# Altium integrated library Dallas Logic Delay Line.IntLib: 454 symbols (part 1 of 8)
Pins are listed as number, name and electrical type; pins without a type are passive.

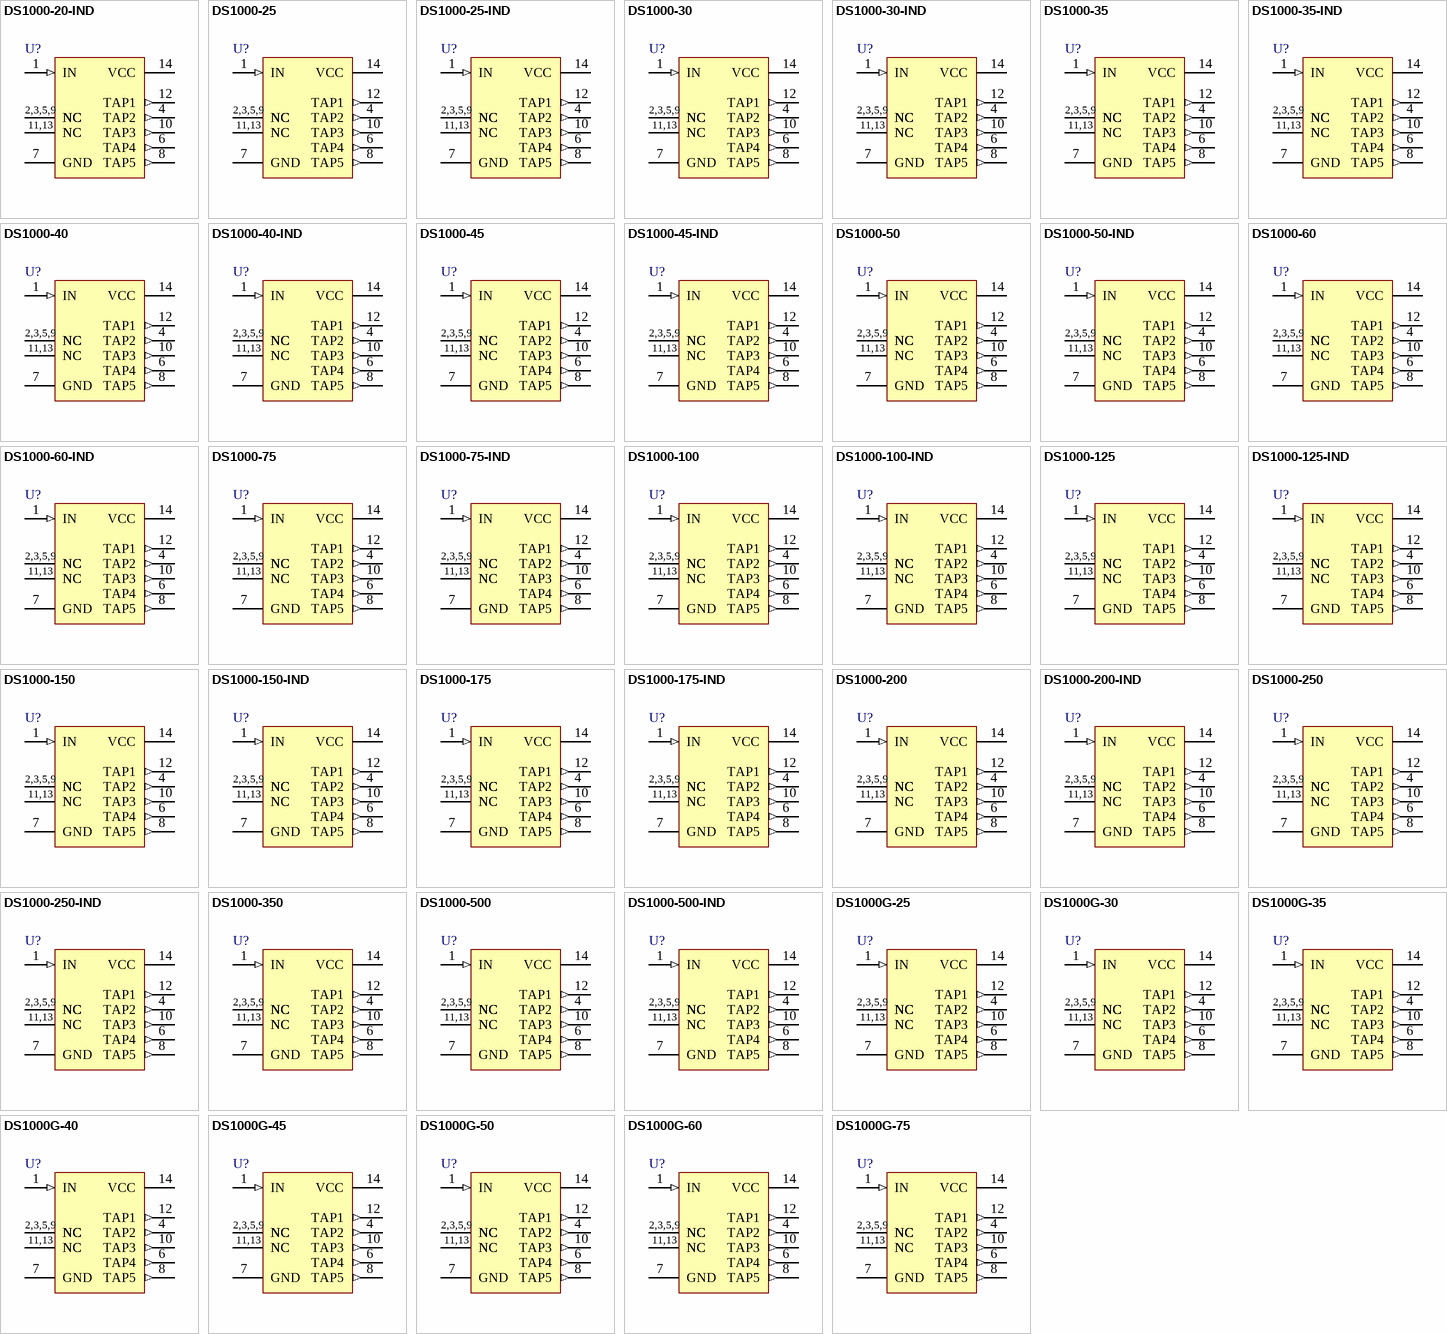
[diagram p0: symbols DS1000-20-IND to DS1000G-75]

## DS1000-20-IND
designator U?
5-Tap Silicon Delay Line; Note: Pin numbers 2, 3, 5, 9, 11 and 13 are Not Connected (NC); ComponentAvailability: Obsolete; Published: 13-Oct-2000; LatestRevisionDate: 17-Jul-2002; LatestRevisionNote: Re-released for DXP Platform.; DatasheetVersion: 17-Feb-1998; PackageVersion: 1999; PackageReference: DIP14; Publisher: Altium Limited; PackageDescription: DIP, 14-Pin, Row Spacing 7.62 mm, Pitch 2.54 mm; ComponentLink1Description: Manufacturer Link; ComponentLink1URL: http://www.maxim-ic.com/
footprint DIP14 (DIP, 14-Leads, Row Spacing 7.62mm, Pitch 2.54mm, Body 19.31x6.35mm)
pins: 1 IN (in), 2 NC, 3 NC, 4 TAP2 (out), 5 NC, 6 TAP4 (out), 7 GND (power), 8 TAP5 (out), 9 NC, 10 TAP3 (out), 11 NC, 12 TAP1 (out), 13 NC, 14 VCC (power)
text: 2,3,5,9; 11,13

## DS1000-25
designator U?
5-Tap Silicon Delay Line; Note: Pin numbers 2, 3, 5, 9, 11 and 13 are Not Connected (NC); ComponentAvailability: Obsolete; Published: 13-Oct-2000; LatestRevisionDate: 17-Jul-2002; LatestRevisionNote: Re-released for DXP Platform.; DatasheetVersion: 17-Feb-1998; PackageVersion: 1999; PackageReference: DIP14; Publisher: Altium Limited; PackageDescription: DIP, 14-Pin, Row Spacing 7.62 mm, Pitch 2.54 mm; ComponentLink1Description: Manufacturer Link; ComponentLink1URL: http://www.maxim-ic.com/
footprint DIP14 (DIP, 14-Leads, Row Spacing 7.62mm, Pitch 2.54mm, Body 19.31x6.35mm)
pins: 1 IN (in), 2 NC, 3 NC, 4 TAP2 (out), 5 NC, 6 TAP4 (out), 7 GND (power), 8 TAP5 (out), 9 NC, 10 TAP3 (out), 11 NC, 12 TAP1 (out), 13 NC, 14 VCC (power)
text: 2,3,5,9; 11,13

## DS1000-25-IND
designator U?
5-Tap Silicon Delay Line; Note: Pin numbers 2, 3, 5, 9, 11 and 13 are Not Connected (NC); ComponentAvailability: Obsolete; Published: 13-Oct-2000; LatestRevisionDate: 17-Jul-2002; LatestRevisionNote: Re-released for DXP Platform.; DatasheetVersion: 17-Feb-1998; PackageVersion: 1999; PackageReference: DIP14; Publisher: Altium Limited; PackageDescription: DIP, 14-Pin, Row Spacing 7.62 mm, Pitch 2.54 mm; ComponentLink1Description: Manufacturer Link; ComponentLink1URL: http://www.maxim-ic.com/
footprint DIP14 (DIP, 14-Leads, Row Spacing 7.62mm, Pitch 2.54mm, Body 19.31x6.35mm)
pins: 1 IN (in), 2 NC, 3 NC, 4 TAP2 (out), 5 NC, 6 TAP4 (out), 7 GND (power), 8 TAP5 (out), 9 NC, 10 TAP3 (out), 11 NC, 12 TAP1 (out), 13 NC, 14 VCC (power)
text: 2,3,5,9; 11,13

## DS1000-30
designator U?
5-Tap Silicon Delay Line; Note: Pin numbers 2, 3, 5, 9, 11 and 13 are Not Connected (NC); ComponentAvailability: Obsolete; Published: 13-Oct-2000; LatestRevisionDate: 17-Jul-2002; LatestRevisionNote: Re-released for DXP Platform.; DatasheetVersion: 17-Feb-1998; PackageVersion: 1999; PackageReference: DIP14; Publisher: Altium Limited; PackageDescription: DIP, 14-Pin, Row Spacing 7.62 mm, Pitch 2.54 mm; ComponentLink1Description: Manufacturer Link; ComponentLink1URL: http://www.maxim-ic.com/
footprint DIP14 (DIP, 14-Leads, Row Spacing 7.62mm, Pitch 2.54mm, Body 19.31x6.35mm)
pins: 1 IN (in), 2 NC, 3 NC, 4 TAP2 (out), 5 NC, 6 TAP4 (out), 7 GND (power), 8 TAP5 (out), 9 NC, 10 TAP3 (out), 11 NC, 12 TAP1 (out), 13 NC, 14 VCC (power)
text: 2,3,5,9; 11,13

## DS1000-30-IND
designator U?
5-Tap Silicon Delay Line; Note: Pin numbers 2, 3, 5, 9, 11 and 13 are Not Connected (NC); ComponentAvailability: Obsolete; Published: 13-Oct-2000; LatestRevisionDate: 17-Jul-2002; LatestRevisionNote: Re-released for DXP Platform.; DatasheetVersion: 17-Feb-1998; PackageVersion: 1999; PackageReference: DIP14; Publisher: Altium Limited; PackageDescription: DIP, 14-Pin, Row Spacing 7.62 mm, Pitch 2.54 mm; ComponentLink1Description: Manufacturer Link; ComponentLink1URL: http://www.maxim-ic.com/
footprint DIP14 (DIP, 14-Leads, Row Spacing 7.62mm, Pitch 2.54mm, Body 19.31x6.35mm)
pins: 1 IN (in), 2 NC, 3 NC, 4 TAP2 (out), 5 NC, 6 TAP4 (out), 7 GND (power), 8 TAP5 (out), 9 NC, 10 TAP3 (out), 11 NC, 12 TAP1 (out), 13 NC, 14 VCC (power)
text: 2,3,5,9; 11,13

## DS1000-35
designator U?
5-Tap Silicon Delay Line; Note: Pin numbers 2, 3, 5, 9, 11 and 13 are Not Connected (NC); ComponentAvailability: Obsolete; Published: 13-Oct-2000; LatestRevisionDate: 17-Jul-2002; LatestRevisionNote: Re-released for DXP Platform.; DatasheetVersion: 17-Feb-1998; PackageVersion: 1999; PackageReference: DIP14; Publisher: Altium Limited; PackageDescription: DIP, 14-Pin, Row Spacing 7.62 mm, Pitch 2.54 mm; ComponentLink1Description: Manufacturer Link; ComponentLink1URL: http://www.maxim-ic.com/
footprint DIP14 (DIP, 14-Leads, Row Spacing 7.62mm, Pitch 2.54mm, Body 19.31x6.35mm)
pins: 1 IN (in), 2 NC, 3 NC, 4 TAP2 (out), 5 NC, 6 TAP4 (out), 7 GND (power), 8 TAP5 (out), 9 NC, 10 TAP3 (out), 11 NC, 12 TAP1 (out), 13 NC, 14 VCC (power)
text: 2,3,5,9; 11,13

## DS1000-35-IND
designator U?
5-Tap Silicon Delay Line; Note: Pin numbers 2, 3, 5, 9, 11 and 13 are Not Connected (NC); ComponentAvailability: Obsolete; Published: 13-Oct-2000; LatestRevisionDate: 17-Jul-2002; LatestRevisionNote: Re-released for DXP Platform.; DatasheetVersion: 17-Feb-1998; PackageVersion: 1999; PackageReference: DIP14; Publisher: Altium Limited; PackageDescription: DIP, 14-Pin, Row Spacing 7.62 mm, Pitch 2.54 mm; ComponentLink1Description: Manufacturer Link; ComponentLink1URL: http://www.maxim-ic.com/
footprint DIP14 (DIP, 14-Leads, Row Spacing 7.62mm, Pitch 2.54mm, Body 19.31x6.35mm)
pins: 1 IN (in), 2 NC, 3 NC, 4 TAP2 (out), 5 NC, 6 TAP4 (out), 7 GND (power), 8 TAP5 (out), 9 NC, 10 TAP3 (out), 11 NC, 12 TAP1 (out), 13 NC, 14 VCC (power)
text: 2,3,5,9; 11,13

## DS1000-40
designator U?
5-Tap Silicon Delay Line; Note: Pin numbers 2, 3, 5, 9, 11 and 13 are Not Connected (NC); ComponentAvailability: Obsolete; Published: 13-Oct-2000; LatestRevisionDate: 17-Jul-2002; LatestRevisionNote: Re-released for DXP Platform.; DatasheetVersion: 17-Feb-1998; PackageVersion: 1999; PackageReference: DIP14; Publisher: Altium Limited; PackageDescription: DIP, 14-Pin, Row Spacing 7.62 mm, Pitch 2.54 mm; ComponentLink1Description: Manufacturer Link; ComponentLink1URL: http://www.maxim-ic.com/
footprint DIP14 (DIP, 14-Leads, Row Spacing 7.62mm, Pitch 2.54mm, Body 19.31x6.35mm)
pins: 1 IN (in), 2 NC, 3 NC, 4 TAP2 (out), 5 NC, 6 TAP4 (out), 7 GND (power), 8 TAP5 (out), 9 NC, 10 TAP3 (out), 11 NC, 12 TAP1 (out), 13 NC, 14 VCC (power)
text: 2,3,5,9; 11,13

## DS1000-40-IND
designator U?
5-Tap Silicon Delay Line; Note: Pin numbers 2, 3, 5, 9, 11 and 13 are Not Connected (NC); ComponentAvailability: Obsolete; Published: 13-Oct-2000; LatestRevisionDate: 17-Jul-2002; LatestRevisionNote: Re-released for DXP Platform.; DatasheetVersion: 17-Feb-1998; PackageVersion: 1999; PackageReference: DIP14; Publisher: Altium Limited; PackageDescription: DIP, 14-Pin, Row Spacing 7.62 mm, Pitch 2.54 mm; ComponentLink1Description: Manufacturer Link; ComponentLink1URL: http://www.maxim-ic.com/
footprint DIP14 (DIP, 14-Leads, Row Spacing 7.62mm, Pitch 2.54mm, Body 19.31x6.35mm)
pins: 1 IN (in), 2 NC, 3 NC, 4 TAP2 (out), 5 NC, 6 TAP4 (out), 7 GND (power), 8 TAP5 (out), 9 NC, 10 TAP3 (out), 11 NC, 12 TAP1 (out), 13 NC, 14 VCC (power)
text: 2,3,5,9; 11,13

## DS1000-45
designator U?
5-Tap Silicon Delay Line; Note: Pin numbers 2, 3, 5, 9, 11 and 13 are Not Connected (NC); ComponentAvailability: Obsolete; Published: 13-Oct-2000; LatestRevisionDate: 17-Jul-2002; LatestRevisionNote: Re-released for DXP Platform.; DatasheetVersion: 17-Feb-1998; PackageVersion: 1999; PackageReference: DIP14; Publisher: Altium Limited; PackageDescription: DIP, 14-Pin, Row Spacing 7.62 mm, Pitch 2.54 mm; ComponentLink1Description: Manufacturer Link; ComponentLink1URL: http://www.maxim-ic.com/
footprint DIP14 (DIP, 14-Leads, Row Spacing 7.62mm, Pitch 2.54mm, Body 19.31x6.35mm)
pins: 1 IN (in), 2 NC, 3 NC, 4 TAP2 (out), 5 NC, 6 TAP4 (out), 7 GND (power), 8 TAP5 (out), 9 NC, 10 TAP3 (out), 11 NC, 12 TAP1 (out), 13 NC, 14 VCC (power)
text: 2,3,5,9; 11,13

## DS1000-45-IND
designator U?
5-Tap Silicon Delay Line; Note: Pin numbers 2, 3, 5, 9, 11 and 13 are Not Connected (NC); ComponentAvailability: Obsolete; Published: 13-Oct-2000; LatestRevisionDate: 17-Jul-2002; LatestRevisionNote: Re-released for DXP Platform.; DatasheetVersion: 17-Feb-1998; PackageVersion: 1999; PackageReference: DIP14; Publisher: Altium Limited; PackageDescription: DIP, 14-Pin, Row Spacing 7.62 mm, Pitch 2.54 mm; ComponentLink1Description: Manufacturer Link; ComponentLink1URL: http://www.maxim-ic.com/
footprint DIP14 (DIP, 14-Leads, Row Spacing 7.62mm, Pitch 2.54mm, Body 19.31x6.35mm)
pins: 1 IN (in), 2 NC, 3 NC, 4 TAP2 (out), 5 NC, 6 TAP4 (out), 7 GND (power), 8 TAP5 (out), 9 NC, 10 TAP3 (out), 11 NC, 12 TAP1 (out), 13 NC, 14 VCC (power)
text: 2,3,5,9; 11,13

## DS1000-50
designator U?
5-Tap Silicon Delay Line; Note: Pin numbers 2, 3, 5, 9, 11 and 13 are Not Connected (NC); ComponentAvailability: Obsolete; Published: 13-Oct-2000; LatestRevisionDate: 17-Jul-2002; LatestRevisionNote: Re-released for DXP Platform.; DatasheetVersion: 17-Feb-1998; PackageVersion: 1999; PackageReference: DIP14; Publisher: Altium Limited; PackageDescription: DIP, 14-Pin, Row Spacing 7.62 mm, Pitch 2.54 mm; ComponentLink1Description: Manufacturer Link; ComponentLink1URL: http://www.maxim-ic.com/
footprint DIP14 (DIP, 14-Leads, Row Spacing 7.62mm, Pitch 2.54mm, Body 19.31x6.35mm)
pins: 1 IN (in), 2 NC, 3 NC, 4 TAP2 (out), 5 NC, 6 TAP4 (out), 7 GND (power), 8 TAP5 (out), 9 NC, 10 TAP3 (out), 11 NC, 12 TAP1 (out), 13 NC, 14 VCC (power)
text: 2,3,5,9; 11,13

## DS1000-50-IND
designator U?
5-Tap Silicon Delay Line; Note: Pin numbers 2, 3, 5, 9, 11 and 13 are Not Connected (NC); ComponentAvailability: Obsolete; Published: 13-Oct-2000; LatestRevisionDate: 17-Jul-2002; LatestRevisionNote: Re-released for DXP Platform.; DatasheetVersion: 17-Feb-1998; PackageVersion: 1999; PackageReference: DIP14; Publisher: Altium Limited; PackageDescription: DIP, 14-Pin, Row Spacing 7.62 mm, Pitch 2.54 mm; ComponentLink1Description: Manufacturer Link; ComponentLink1URL: http://www.maxim-ic.com/
footprint DIP14 (DIP, 14-Leads, Row Spacing 7.62mm, Pitch 2.54mm, Body 19.31x6.35mm)
pins: 1 IN (in), 2 NC, 3 NC, 4 TAP2 (out), 5 NC, 6 TAP4 (out), 7 GND (power), 8 TAP5 (out), 9 NC, 10 TAP3 (out), 11 NC, 12 TAP1 (out), 13 NC, 14 VCC (power)
text: 2,3,5,9; 11,13

## DS1000-60
designator U?
5-Tap Silicon Delay Line; Note: Pin numbers 2, 3, 5, 9, 11 and 13 are Not Connected (NC); ComponentAvailability: Obsolete; Published: 13-Oct-2000; LatestRevisionDate: 17-Jul-2002; LatestRevisionNote: Re-released for DXP Platform.; DatasheetVersion: 17-Feb-1998; PackageVersion: 1999; PackageReference: DIP14; Publisher: Altium Limited; PackageDescription: DIP, 14-Pin, Row Spacing 7.62 mm, Pitch 2.54 mm; ComponentLink1Description: Manufacturer Link; ComponentLink1URL: http://www.maxim-ic.com/
footprint DIP14 (DIP, 14-Leads, Row Spacing 7.62mm, Pitch 2.54mm, Body 19.31x6.35mm)
pins: 1 IN (in), 2 NC, 3 NC, 4 TAP2 (out), 5 NC, 6 TAP4 (out), 7 GND (power), 8 TAP5 (out), 9 NC, 10 TAP3 (out), 11 NC, 12 TAP1 (out), 13 NC, 14 VCC (power)
text: 2,3,5,9; 11,13

## DS1000-60-IND
designator U?
5-Tap Silicon Delay Line; Note: Pin numbers 2, 3, 5, 9, 11 and 13 are Not Connected (NC); ComponentAvailability: Obsolete; Published: 13-Oct-2000; LatestRevisionDate: 17-Jul-2002; LatestRevisionNote: Re-released for DXP Platform.; DatasheetVersion: 17-Feb-1998; PackageVersion: 1999; PackageReference: DIP14; Publisher: Altium Limited; PackageDescription: DIP, 14-Pin, Row Spacing 7.62 mm, Pitch 2.54 mm; ComponentLink1Description: Manufacturer Link; ComponentLink1URL: http://www.maxim-ic.com/
footprint DIP14 (DIP, 14-Leads, Row Spacing 7.62mm, Pitch 2.54mm, Body 19.31x6.35mm)
pins: 1 IN (in), 2 NC, 3 NC, 4 TAP2 (out), 5 NC, 6 TAP4 (out), 7 GND (power), 8 TAP5 (out), 9 NC, 10 TAP3 (out), 11 NC, 12 TAP1 (out), 13 NC, 14 VCC (power)
text: 2,3,5,9; 11,13

## DS1000-75
designator U?
5-Tap Silicon Delay Line; Note: Pin numbers 2, 3, 5, 9, 11 and 13 are Not Connected (NC); ComponentAvailability: Obsolete; Published: 13-Oct-2000; LatestRevisionDate: 17-Jul-2002; LatestRevisionNote: Re-released for DXP Platform.; DatasheetVersion: 17-Feb-1998; PackageVersion: 1999; PackageReference: DIP14; Publisher: Altium Limited; PackageDescription: DIP, 14-Pin, Row Spacing 7.62 mm, Pitch 2.54 mm; ComponentLink1Description: Manufacturer Link; ComponentLink1URL: http://www.maxim-ic.com/
footprint DIP14 (DIP, 14-Leads, Row Spacing 7.62mm, Pitch 2.54mm, Body 19.31x6.35mm)
pins: 1 IN (in), 2 NC, 3 NC, 4 TAP2 (out), 5 NC, 6 TAP4 (out), 7 GND (power), 8 TAP5 (out), 9 NC, 10 TAP3 (out), 11 NC, 12 TAP1 (out), 13 NC, 14 VCC (power)
text: 2,3,5,9; 11,13

## DS1000-75-IND
designator U?
5-Tap Silicon Delay Line; Note: Pin numbers 2, 3, 5, 9, 11 and 13 are Not Connected (NC); ComponentAvailability: Obsolete; Published: 13-Oct-2000; LatestRevisionDate: 17-Jul-2002; LatestRevisionNote: Re-released for DXP Platform.; DatasheetVersion: 17-Feb-1998; PackageVersion: 1999; PackageReference: DIP14; Publisher: Altium Limited; PackageDescription: DIP, 14-Pin, Row Spacing 7.62 mm, Pitch 2.54 mm; ComponentLink1Description: Manufacturer Link; ComponentLink1URL: http://www.maxim-ic.com/
footprint DIP14 (DIP, 14-Leads, Row Spacing 7.62mm, Pitch 2.54mm, Body 19.31x6.35mm)
pins: 1 IN (in), 2 NC, 3 NC, 4 TAP2 (out), 5 NC, 6 TAP4 (out), 7 GND (power), 8 TAP5 (out), 9 NC, 10 TAP3 (out), 11 NC, 12 TAP1 (out), 13 NC, 14 VCC (power)
text: 2,3,5,9; 11,13

## DS1000-100
designator U?
5-Tap Silicon Delay Line; Note: Pin numbers 2, 3, 5, 9, 11 and 13 are Not Connected (NC); ComponentAvailability: Obsolete; Published: 13-Oct-2000; LatestRevisionDate: 17-Jul-2002; LatestRevisionNote: Re-released for DXP Platform.; DatasheetVersion: 17-Feb-1998; PackageVersion: 1999; PackageReference: DIP14; Publisher: Altium Limited; PackageDescription: DIP, 14-Pin, Row Spacing 7.62 mm, Pitch 2.54 mm; ComponentLink1Description: Manufacturer Link; ComponentLink1URL: http://www.maxim-ic.com/
footprint DIP14 (DIP, 14-Leads, Row Spacing 7.62mm, Pitch 2.54mm, Body 19.31x6.35mm)
pins: 1 IN (in), 2 NC, 3 NC, 4 TAP2 (out), 5 NC, 6 TAP4 (out), 7 GND (power), 8 TAP5 (out), 9 NC, 10 TAP3 (out), 11 NC, 12 TAP1 (out), 13 NC, 14 VCC (power)
text: 2,3,5,9; 11,13

## DS1000-100-IND
designator U?
5-Tap Silicon Delay Line; Note: Pin numbers 2, 3, 5, 9, 11 and 13 are Not Connected (NC); ComponentAvailability: Obsolete; Published: 13-Oct-2000; LatestRevisionDate: 17-Jul-2002; LatestRevisionNote: Re-released for DXP Platform.; DatasheetVersion: 17-Feb-1998; PackageVersion: 1999; PackageReference: DIP14; Publisher: Altium Limited; PackageDescription: DIP, 14-Pin, Row Spacing 7.62 mm, Pitch 2.54 mm; ComponentLink1Description: Manufacturer Link; ComponentLink1URL: http://www.maxim-ic.com/
footprint DIP14 (DIP, 14-Leads, Row Spacing 7.62mm, Pitch 2.54mm, Body 19.31x6.35mm)
pins: 1 IN (in), 2 NC, 3 NC, 4 TAP2 (out), 5 NC, 6 TAP4 (out), 7 GND (power), 8 TAP5 (out), 9 NC, 10 TAP3 (out), 11 NC, 12 TAP1 (out), 13 NC, 14 VCC (power)
text: 2,3,5,9; 11,13

## DS1000-125
designator U?
5-Tap Silicon Delay Line; Note: Pin numbers 2, 3, 5, 9, 11 and 13 are Not Connected (NC); ComponentAvailability: Obsolete; Published: 13-Oct-2000; LatestRevisionDate: 17-Jul-2002; LatestRevisionNote: Re-released for DXP Platform.; DatasheetVersion: 17-Feb-1998; PackageVersion: 1999; PackageReference: DIP14; Publisher: Altium Limited; PackageDescription: DIP, 14-Pin, Row Spacing 7.62 mm, Pitch 2.54 mm; ComponentLink1Description: Manufacturer Link; ComponentLink1URL: http://www.maxim-ic.com/
footprint DIP14 (DIP, 14-Leads, Row Spacing 7.62mm, Pitch 2.54mm, Body 19.31x6.35mm)
pins: 1 IN (in), 2 NC, 3 NC, 4 TAP2 (out), 5 NC, 6 TAP4 (out), 7 GND (power), 8 TAP5 (out), 9 NC, 10 TAP3 (out), 11 NC, 12 TAP1 (out), 13 NC, 14 VCC (power)
text: 2,3,5,9; 11,13

## DS1000-125-IND
designator U?
5-Tap Silicon Delay Line; Note: Pin numbers 2, 3, 5, 9, 11 and 13 are Not Connected (NC); ComponentAvailability: Obsolete; Published: 13-Oct-2000; LatestRevisionDate: 17-Jul-2002; LatestRevisionNote: Re-released for DXP Platform.; DatasheetVersion: 17-Feb-1998; PackageVersion: 1999; PackageReference: DIP14; Publisher: Altium Limited; PackageDescription: DIP, 14-Pin, Row Spacing 7.62 mm, Pitch 2.54 mm; ComponentLink1Description: Manufacturer Link; ComponentLink1URL: http://www.maxim-ic.com/
footprint DIP14 (DIP, 14-Leads, Row Spacing 7.62mm, Pitch 2.54mm, Body 19.31x6.35mm)
pins: 1 IN (in), 2 NC, 3 NC, 4 TAP2 (out), 5 NC, 6 TAP4 (out), 7 GND (power), 8 TAP5 (out), 9 NC, 10 TAP3 (out), 11 NC, 12 TAP1 (out), 13 NC, 14 VCC (power)
text: 2,3,5,9; 11,13

## DS1000-150
designator U?
5-Tap Silicon Delay Line; Note: Pin numbers 2, 3, 5, 9, 11 and 13 are Not Connected (NC); ComponentAvailability: Obsolete; Published: 13-Oct-2000; LatestRevisionDate: 17-Jul-2002; LatestRevisionNote: Re-released for DXP Platform.; DatasheetVersion: 17-Feb-1998; PackageVersion: 1999; PackageReference: DIP14; Publisher: Altium Limited; PackageDescription: DIP, 14-Pin, Row Spacing 7.62 mm, Pitch 2.54 mm; ComponentLink1Description: Manufacturer Link; ComponentLink1URL: http://www.maxim-ic.com/
footprint DIP14 (DIP, 14-Leads, Row Spacing 7.62mm, Pitch 2.54mm, Body 19.31x6.35mm)
pins: 1 IN (in), 2 NC, 3 NC, 4 TAP2 (out), 5 NC, 6 TAP4 (out), 7 GND (power), 8 TAP5 (out), 9 NC, 10 TAP3 (out), 11 NC, 12 TAP1 (out), 13 NC, 14 VCC (power)
text: 2,3,5,9; 11,13

## DS1000-150-IND
designator U?
5-Tap Silicon Delay Line; Note: Pin numbers 2, 3, 5, 9, 11 and 13 are Not Connected (NC); ComponentAvailability: Obsolete; Published: 13-Oct-2000; LatestRevisionDate: 17-Jul-2002; LatestRevisionNote: Re-released for DXP Platform.; DatasheetVersion: 17-Feb-1998; PackageVersion: 1999; PackageReference: DIP14; Publisher: Altium Limited; PackageDescription: DIP, 14-Pin, Row Spacing 7.62 mm, Pitch 2.54 mm; ComponentLink1Description: Manufacturer Link; ComponentLink1URL: http://www.maxim-ic.com/
footprint DIP14 (DIP, 14-Leads, Row Spacing 7.62mm, Pitch 2.54mm, Body 19.31x6.35mm)
pins: 1 IN (in), 2 NC, 3 NC, 4 TAP2 (out), 5 NC, 6 TAP4 (out), 7 GND (power), 8 TAP5 (out), 9 NC, 10 TAP3 (out), 11 NC, 12 TAP1 (out), 13 NC, 14 VCC (power)
text: 2,3,5,9; 11,13

## DS1000-175
designator U?
5-Tap Silicon Delay Line; Note: Pin numbers 2, 3, 5, 9, 11 and 13 are Not Connected (NC); ComponentAvailability: Obsolete; Published: 13-Oct-2000; LatestRevisionDate: 17-Jul-2002; LatestRevisionNote: Re-released for DXP Platform.; DatasheetVersion: 17-Feb-1998; PackageVersion: 1999; PackageReference: DIP14; Publisher: Altium Limited; PackageDescription: DIP, 14-Pin, Row Spacing 7.62 mm, Pitch 2.54 mm; ComponentLink1Description: Manufacturer Link; ComponentLink1URL: http://www.maxim-ic.com/
footprint DIP14 (DIP, 14-Leads, Row Spacing 7.62mm, Pitch 2.54mm, Body 19.31x6.35mm)
pins: 1 IN (in), 2 NC, 3 NC, 4 TAP2 (out), 5 NC, 6 TAP4 (out), 7 GND (power), 8 TAP5 (out), 9 NC, 10 TAP3 (out), 11 NC, 12 TAP1 (out), 13 NC, 14 VCC (power)
text: 2,3,5,9; 11,13

## DS1000-175-IND
designator U?
5-Tap Silicon Delay Line; Note: Pin numbers 2, 3, 5, 9, 11 and 13 are Not Connected (NC); ComponentAvailability: Obsolete; Published: 13-Oct-2000; LatestRevisionDate: 17-Jul-2002; LatestRevisionNote: Re-released for DXP Platform.; DatasheetVersion: 17-Feb-1998; PackageVersion: 1999; PackageReference: DIP14; Publisher: Altium Limited; PackageDescription: DIP, 14-Pin, Row Spacing 7.62 mm, Pitch 2.54 mm; ComponentLink1Description: Manufacturer Link; ComponentLink1URL: http://www.maxim-ic.com/
footprint DIP14 (DIP, 14-Leads, Row Spacing 7.62mm, Pitch 2.54mm, Body 19.31x6.35mm)
pins: 1 IN (in), 2 NC, 3 NC, 4 TAP2 (out), 5 NC, 6 TAP4 (out), 7 GND (power), 8 TAP5 (out), 9 NC, 10 TAP3 (out), 11 NC, 12 TAP1 (out), 13 NC, 14 VCC (power)
text: 2,3,5,9; 11,13

## DS1000-200
designator U?
5-Tap Silicon Delay Line; Note: Pin numbers 2, 3, 5, 9, 11 and 13 are Not Connected (NC); ComponentAvailability: Obsolete; Published: 13-Oct-2000; LatestRevisionDate: 17-Jul-2002; LatestRevisionNote: Re-released for DXP Platform.; DatasheetVersion: 17-Feb-1998; PackageVersion: 1999; PackageReference: DIP14; Publisher: Altium Limited; PackageDescription: DIP, 14-Pin, Row Spacing 7.62 mm, Pitch 2.54 mm; ComponentLink1Description: Manufacturer Link; ComponentLink1URL: http://www.maxim-ic.com/
footprint DIP14 (DIP, 14-Leads, Row Spacing 7.62mm, Pitch 2.54mm, Body 19.31x6.35mm)
pins: 1 IN (in), 2 NC, 3 NC, 4 TAP2 (out), 5 NC, 6 TAP4 (out), 7 GND (power), 8 TAP5 (out), 9 NC, 10 TAP3 (out), 11 NC, 12 TAP1 (out), 13 NC, 14 VCC (power)
text: 2,3,5,9; 11,13

## DS1000-200-IND
designator U?
5-Tap Silicon Delay Line; Note: Pin numbers 2, 3, 5, 9, 11 and 13 are Not Connected (NC); ComponentAvailability: Obsolete; Published: 13-Oct-2000; LatestRevisionDate: 17-Jul-2002; LatestRevisionNote: Re-released for DXP Platform.; DatasheetVersion: 17-Feb-1998; PackageVersion: 1999; PackageReference: DIP14; Publisher: Altium Limited; PackageDescription: DIP, 14-Pin, Row Spacing 7.62 mm, Pitch 2.54 mm; ComponentLink1Description: Manufacturer Link; ComponentLink1URL: http://www.maxim-ic.com/
footprint DIP14 (DIP, 14-Leads, Row Spacing 7.62mm, Pitch 2.54mm, Body 19.31x6.35mm)
pins: 1 IN (in), 2 NC, 3 NC, 4 TAP2 (out), 5 NC, 6 TAP4 (out), 7 GND (power), 8 TAP5 (out), 9 NC, 10 TAP3 (out), 11 NC, 12 TAP1 (out), 13 NC, 14 VCC (power)
text: 2,3,5,9; 11,13

## DS1000-250
designator U?
5-Tap Silicon Delay Line; Note: Pin numbers 2, 3, 5, 9, 11 and 13 are Not Connected (NC); ComponentAvailability: Obsolete; Published: 13-Oct-2000; LatestRevisionDate: 17-Jul-2002; LatestRevisionNote: Re-released for DXP Platform.; DatasheetVersion: 17-Feb-1998; PackageVersion: 1999; PackageReference: DIP14; Publisher: Altium Limited; PackageDescription: DIP, 14-Pin, Row Spacing 7.62 mm, Pitch 2.54 mm; ComponentLink1Description: Manufacturer Link; ComponentLink1URL: http://www.maxim-ic.com/
footprint DIP14 (DIP, 14-Leads, Row Spacing 7.62mm, Pitch 2.54mm, Body 19.31x6.35mm)
pins: 1 IN (in), 2 NC, 3 NC, 4 TAP2 (out), 5 NC, 6 TAP4 (out), 7 GND (power), 8 TAP5 (out), 9 NC, 10 TAP3 (out), 11 NC, 12 TAP1 (out), 13 NC, 14 VCC (power)
text: 2,3,5,9; 11,13

## DS1000-250-IND
designator U?
5-Tap Silicon Delay Line; Note: Pin numbers 2, 3, 5, 9, 11 and 13 are Not Connected (NC); ComponentAvailability: Obsolete; Published: 13-Oct-2000; LatestRevisionDate: 17-Jul-2002; LatestRevisionNote: Re-released for DXP Platform.; DatasheetVersion: 17-Feb-1998; PackageVersion: 1999; PackageReference: DIP14; Publisher: Altium Limited; PackageDescription: DIP, 14-Pin, Row Spacing 7.62 mm, Pitch 2.54 mm; ComponentLink1Description: Manufacturer Link; ComponentLink1URL: http://www.maxim-ic.com/
footprint DIP14 (DIP, 14-Leads, Row Spacing 7.62mm, Pitch 2.54mm, Body 19.31x6.35mm)
pins: 1 IN (in), 2 NC, 3 NC, 4 TAP2 (out), 5 NC, 6 TAP4 (out), 7 GND (power), 8 TAP5 (out), 9 NC, 10 TAP3 (out), 11 NC, 12 TAP1 (out), 13 NC, 14 VCC (power)
text: 2,3,5,9; 11,13

## DS1000-350
designator U?
5-Tap Silicon Delay Line; Note: Pin numbers 2, 3, 5, 9, 11 and 13 are Not Connected (NC); ComponentAvailability: Obsolete; Published: 13-Oct-2000; LatestRevisionDate: 17-Jul-2002; LatestRevisionNote: Re-released for DXP Platform.; DatasheetVersion: Mar-1994; PackageVersion: 1999; PackageReference: DIP14; Publisher: Altium Limited; PackageDescription: DIP, 14-Pin, Row Spacing 7.62 mm, Pitch 2.54 mm; ComponentLink1Description: Manufacturer Link; ComponentLink1URL: http://www.maxim-ic.com/
footprint DIP14 (DIP, 14-Leads, Row Spacing 7.62mm, Pitch 2.54mm, Body 19.31x6.35mm)
pins: 1 IN (in), 2 NC, 3 NC, 4 TAP2 (out), 5 NC, 6 TAP4 (out), 7 GND (power), 8 TAP5 (out), 9 NC, 10 TAP3 (out), 11 NC, 12 TAP1 (out), 13 NC, 14 VCC (power)
text: 2,3,5,9; 11,13

## DS1000-500
designator U?
5-Tap Silicon Delay Line; Note: Pin numbers 2, 3, 5, 9, 11 and 13 are Not Connected (NC); ComponentAvailability: Obsolete; Published: 13-Oct-2000; LatestRevisionDate: 17-Jul-2002; LatestRevisionNote: Re-released for DXP Platform.; DatasheetVersion: 17-Feb-1998; PackageVersion: 1999; PackageReference: DIP14; Publisher: Altium Limited; PackageDescription: DIP, 14-Pin, Row Spacing 7.62 mm, Pitch 2.54 mm; ComponentLink1Description: Manufacturer Link; ComponentLink1URL: http://www.maxim-ic.com/
footprint DIP14 (DIP, 14-Leads, Row Spacing 7.62mm, Pitch 2.54mm, Body 19.31x6.35mm)
pins: 1 IN (in), 2 NC, 3 NC, 4 TAP2 (out), 5 NC, 6 TAP4 (out), 7 GND (power), 8 TAP5 (out), 9 NC, 10 TAP3 (out), 11 NC, 12 TAP1 (out), 13 NC, 14 VCC (power)
text: 2,3,5,9; 11,13

## DS1000-500-IND
designator U?
5-Tap Silicon Delay Line; Note: Pin numbers 2, 3, 5, 9, 11 and 13 are Not Connected (NC); ComponentAvailability: Obsolete; Published: 13-Oct-2000; LatestRevisionDate: 17-Jul-2002; LatestRevisionNote: Re-released for DXP Platform.; DatasheetVersion: 17-Feb-1998; PackageVersion: 1999; PackageReference: DIP14; Publisher: Altium Limited; PackageDescription: DIP, 14-Pin, Row Spacing 7.62 mm, Pitch 2.54 mm; ComponentLink1Description: Manufacturer Link; ComponentLink1URL: http://www.maxim-ic.com/
footprint DIP14 (DIP, 14-Leads, Row Spacing 7.62mm, Pitch 2.54mm, Body 19.31x6.35mm)
pins: 1 IN (in), 2 NC, 3 NC, 4 TAP2 (out), 5 NC, 6 TAP4 (out), 7 GND (power), 8 TAP5 (out), 9 NC, 10 TAP3 (out), 11 NC, 12 TAP1 (out), 13 NC, 14 VCC (power)
text: 2,3,5,9; 11,13

## DS1000G-25
designator U?
5-Tap Silicon Delay Line; Note: Pin numbers 2, 3, 5, 9, 11 and 13 are Not Connected (NC); ComponentAvailability: Obsolete; Published: 13-Oct-2000; LatestRevisionDate: 13-Apr-2006; LatestRevisionNote: IPC-7351 Footprint Added.; DatasheetVersion: Mar-1994; PackageVersion: Feb-1999; PackageReference: SOG14; Publisher: Altium Limited; PackageDescription: 14-Pin Small Outline Package 2.54 mm Pitch; ComponentLink1Description: Manufacturer Link; ComponentLink1URL: http://www.maxim-ic.com/
footprint SOG14_N (SOP, 14-Leads, Body 19.3x6.4mm, Pitch 2.54mm, IPC Medium Density)
footprint SOG14_L (SOP, 14-Leads, Body 19.3x6.4mm, Pitch 2.54mm, IPC High Density)
footprint SOG14_M (SOP, 14-Leads, Body 19.3x6.4mm, Pitch 2.54mm, IPC Low Density)
pins: 1 IN (in), 2 NC, 3 NC, 4 TAP2 (out), 5 NC, 6 TAP4 (out), 7 GND (power), 8 TAP5 (out), 9 NC, 10 TAP3 (out), 11 NC, 12 TAP1 (out), 13 NC, 14 VCC (power)
text: 2,3,5,9; 11,13

## DS1000G-30
designator U?
5-Tap Silicon Delay Line; Note: Pin numbers 2, 3, 5, 9, 11 and 13 are Not Connected (NC); ComponentAvailability: Obsolete; Published: 13-Oct-2000; LatestRevisionDate: 13-Apr-2006; LatestRevisionNote: IPC-7351 Footprint Added.; DatasheetVersion: Mar-1994; PackageVersion: Feb-1999; PackageReference: SOG14; Publisher: Altium Limited; PackageDescription: 14-Pin Small Outline Package 2.54 mm Pitch; ComponentLink1Description: Manufacturer Link; ComponentLink1URL: http://www.maxim-ic.com/
footprint SOG14_N (SOP, 14-Leads, Body 19.3x6.4mm, Pitch 2.54mm, IPC Medium Density)
footprint SOG14_L (SOP, 14-Leads, Body 19.3x6.4mm, Pitch 2.54mm, IPC High Density)
footprint SOG14_M (SOP, 14-Leads, Body 19.3x6.4mm, Pitch 2.54mm, IPC Low Density)
pins: 1 IN (in), 2 NC, 3 NC, 4 TAP2 (out), 5 NC, 6 TAP4 (out), 7 GND (power), 8 TAP5 (out), 9 NC, 10 TAP3 (out), 11 NC, 12 TAP1 (out), 13 NC, 14 VCC (power)
text: 2,3,5,9; 11,13

## DS1000G-35
designator U?
5-Tap Silicon Delay Line; Note: Pin numbers 2, 3, 5, 9, 11 and 13 are Not Connected (NC); ComponentAvailability: Obsolete; Published: 13-Oct-2000; LatestRevisionDate: 13-Apr-2006; LatestRevisionNote: IPC-7351 Footprint Added.; DatasheetVersion: Mar-1994; PackageVersion: Feb-1999; PackageReference: SOG14; Publisher: Altium Limited; PackageDescription: 14-Pin Small Outline Package 2.54 mm Pitch; ComponentLink1Description: Manufacturer Link; ComponentLink1URL: http://www.maxim-ic.com/
footprint SOG14_N (SOP, 14-Leads, Body 19.3x6.4mm, Pitch 2.54mm, IPC Medium Density)
footprint SOG14_L (SOP, 14-Leads, Body 19.3x6.4mm, Pitch 2.54mm, IPC High Density)
footprint SOG14_M (SOP, 14-Leads, Body 19.3x6.4mm, Pitch 2.54mm, IPC Low Density)
pins: 1 IN (in), 2 NC, 3 NC, 4 TAP2 (out), 5 NC, 6 TAP4 (out), 7 GND (power), 8 TAP5 (out), 9 NC, 10 TAP3 (out), 11 NC, 12 TAP1 (out), 13 NC, 14 VCC (power)
text: 2,3,5,9; 11,13

## DS1000G-40
designator U?
5-Tap Silicon Delay Line; Note: Pin numbers 2, 3, 5, 9, 11 and 13 are Not Connected (NC); ComponentAvailability: Obsolete; Published: 13-Oct-2000; LatestRevisionDate: 13-Apr-2006; LatestRevisionNote: IPC-7351 Footprint Added.; DatasheetVersion: Mar-1994; PackageVersion: Feb-1999; PackageReference: SOG14; Publisher: Altium Limited; PackageDescription: 14-Pin Small Outline Package 2.54 mm Pitch; ComponentLink1Description: Manufacturer Link; ComponentLink1URL: http://www.maxim-ic.com/
footprint SOG14_N (SOP, 14-Leads, Body 19.3x6.4mm, Pitch 2.54mm, IPC Medium Density)
footprint SOG14_L (SOP, 14-Leads, Body 19.3x6.4mm, Pitch 2.54mm, IPC High Density)
footprint SOG14_M (SOP, 14-Leads, Body 19.3x6.4mm, Pitch 2.54mm, IPC Low Density)
pins: 1 IN (in), 2 NC, 3 NC, 4 TAP2 (out), 5 NC, 6 TAP4 (out), 7 GND (power), 8 TAP5 (out), 9 NC, 10 TAP3 (out), 11 NC, 12 TAP1 (out), 13 NC, 14 VCC (power)
text: 2,3,5,9; 11,13

## DS1000G-45
designator U?
5-Tap Silicon Delay Line; Note: Pin numbers 2, 3, 5, 9, 11 and 13 are Not Connected (NC); ComponentAvailability: Obsolete; Published: 13-Oct-2000; LatestRevisionDate: 13-Apr-2006; LatestRevisionNote: IPC-7351 Footprint Added.; DatasheetVersion: Mar-1994; PackageVersion: Feb-1999; PackageReference: SOG14; Publisher: Altium Limited; PackageDescription: 14-Pin Small Outline Package 2.54 mm Pitch; ComponentLink1Description: Manufacturer Link; ComponentLink1URL: http://www.maxim-ic.com/
footprint SOG14_N (SOP, 14-Leads, Body 19.3x6.4mm, Pitch 2.54mm, IPC Medium Density)
footprint SOG14_L (SOP, 14-Leads, Body 19.3x6.4mm, Pitch 2.54mm, IPC High Density)
footprint SOG14_M (SOP, 14-Leads, Body 19.3x6.4mm, Pitch 2.54mm, IPC Low Density)
pins: 1 IN (in), 2 NC, 3 NC, 4 TAP2 (out), 5 NC, 6 TAP4 (out), 7 GND (power), 8 TAP5 (out), 9 NC, 10 TAP3 (out), 11 NC, 12 TAP1 (out), 13 NC, 14 VCC (power)
text: 2,3,5,9; 11,13

## DS1000G-50
designator U?
5-Tap Silicon Delay Line; Note: Pin numbers 2, 3, 5, 9, 11 and 13 are Not Connected (NC); ComponentAvailability: Obsolete; Published: 13-Oct-2000; LatestRevisionDate: 13-Apr-2006; LatestRevisionNote: IPC-7351 Footprint Added.; DatasheetVersion: Mar-1994; PackageVersion: Feb-1999; PackageReference: SOG14; Publisher: Altium Limited; PackageDescription: 14-Pin Small Outline Package 2.54 mm Pitch; ComponentLink1Description: Manufacturer Link; ComponentLink1URL: http://www.maxim-ic.com/
footprint SOG14_N (SOP, 14-Leads, Body 19.3x6.4mm, Pitch 2.54mm, IPC Medium Density)
footprint SOG14_L (SOP, 14-Leads, Body 19.3x6.4mm, Pitch 2.54mm, IPC High Density)
footprint SOG14_M (SOP, 14-Leads, Body 19.3x6.4mm, Pitch 2.54mm, IPC Low Density)
pins: 1 IN (in), 2 NC, 3 NC, 4 TAP2 (out), 5 NC, 6 TAP4 (out), 7 GND (power), 8 TAP5 (out), 9 NC, 10 TAP3 (out), 11 NC, 12 TAP1 (out), 13 NC, 14 VCC (power)
text: 2,3,5,9; 11,13

## DS1000G-60
designator U?
5-Tap Silicon Delay Line; Note: Pin numbers 2, 3, 5, 9, 11 and 13 are Not Connected (NC); ComponentAvailability: Obsolete; Published: 13-Oct-2000; LatestRevisionDate: 13-Apr-2006; LatestRevisionNote: IPC-7351 Footprint Added.; DatasheetVersion: Mar-1994; PackageVersion: Feb-1999; PackageReference: SOG14; Publisher: Altium Limited; PackageDescription: 14-Pin Small Outline Package 2.54 mm Pitch; ComponentLink1Description: Manufacturer Link; ComponentLink1URL: http://www.maxim-ic.com/
footprint SOG14_N (SOP, 14-Leads, Body 19.3x6.4mm, Pitch 2.54mm, IPC Medium Density)
footprint SOG14_L (SOP, 14-Leads, Body 19.3x6.4mm, Pitch 2.54mm, IPC High Density)
footprint SOG14_M (SOP, 14-Leads, Body 19.3x6.4mm, Pitch 2.54mm, IPC Low Density)
pins: 1 IN (in), 2 NC, 3 NC, 4 TAP2 (out), 5 NC, 6 TAP4 (out), 7 GND (power), 8 TAP5 (out), 9 NC, 10 TAP3 (out), 11 NC, 12 TAP1 (out), 13 NC, 14 VCC (power)
text: 2,3,5,9; 11,13

## DS1000G-75
designator U?
5-Tap Silicon Delay Line; Note: Pin numbers 2, 3, 5, 9, 11 and 13 are Not Connected (NC); ComponentAvailability: Obsolete; Published: 13-Oct-2000; LatestRevisionDate: 13-Apr-2006; LatestRevisionNote: IPC-7351 Footprint Added.; DatasheetVersion: Mar-1994; PackageVersion: Feb-1999; PackageReference: SOG14; Publisher: Altium Limited; PackageDescription: 14-Pin Small Outline Package 2.54 mm Pitch; ComponentLink1Description: Manufacturer Link; ComponentLink1URL: http://www.maxim-ic.com/
footprint SOG14_N (SOP, 14-Leads, Body 19.3x6.4mm, Pitch 2.54mm, IPC Medium Density)
footprint SOG14_L (SOP, 14-Leads, Body 19.3x6.4mm, Pitch 2.54mm, IPC High Density)
footprint SOG14_M (SOP, 14-Leads, Body 19.3x6.4mm, Pitch 2.54mm, IPC Low Density)
pins: 1 IN (in), 2 NC, 3 NC, 4 TAP2 (out), 5 NC, 6 TAP4 (out), 7 GND (power), 8 TAP5 (out), 9 NC, 10 TAP3 (out), 11 NC, 12 TAP1 (out), 13 NC, 14 VCC (power)
text: 2,3,5,9; 11,13

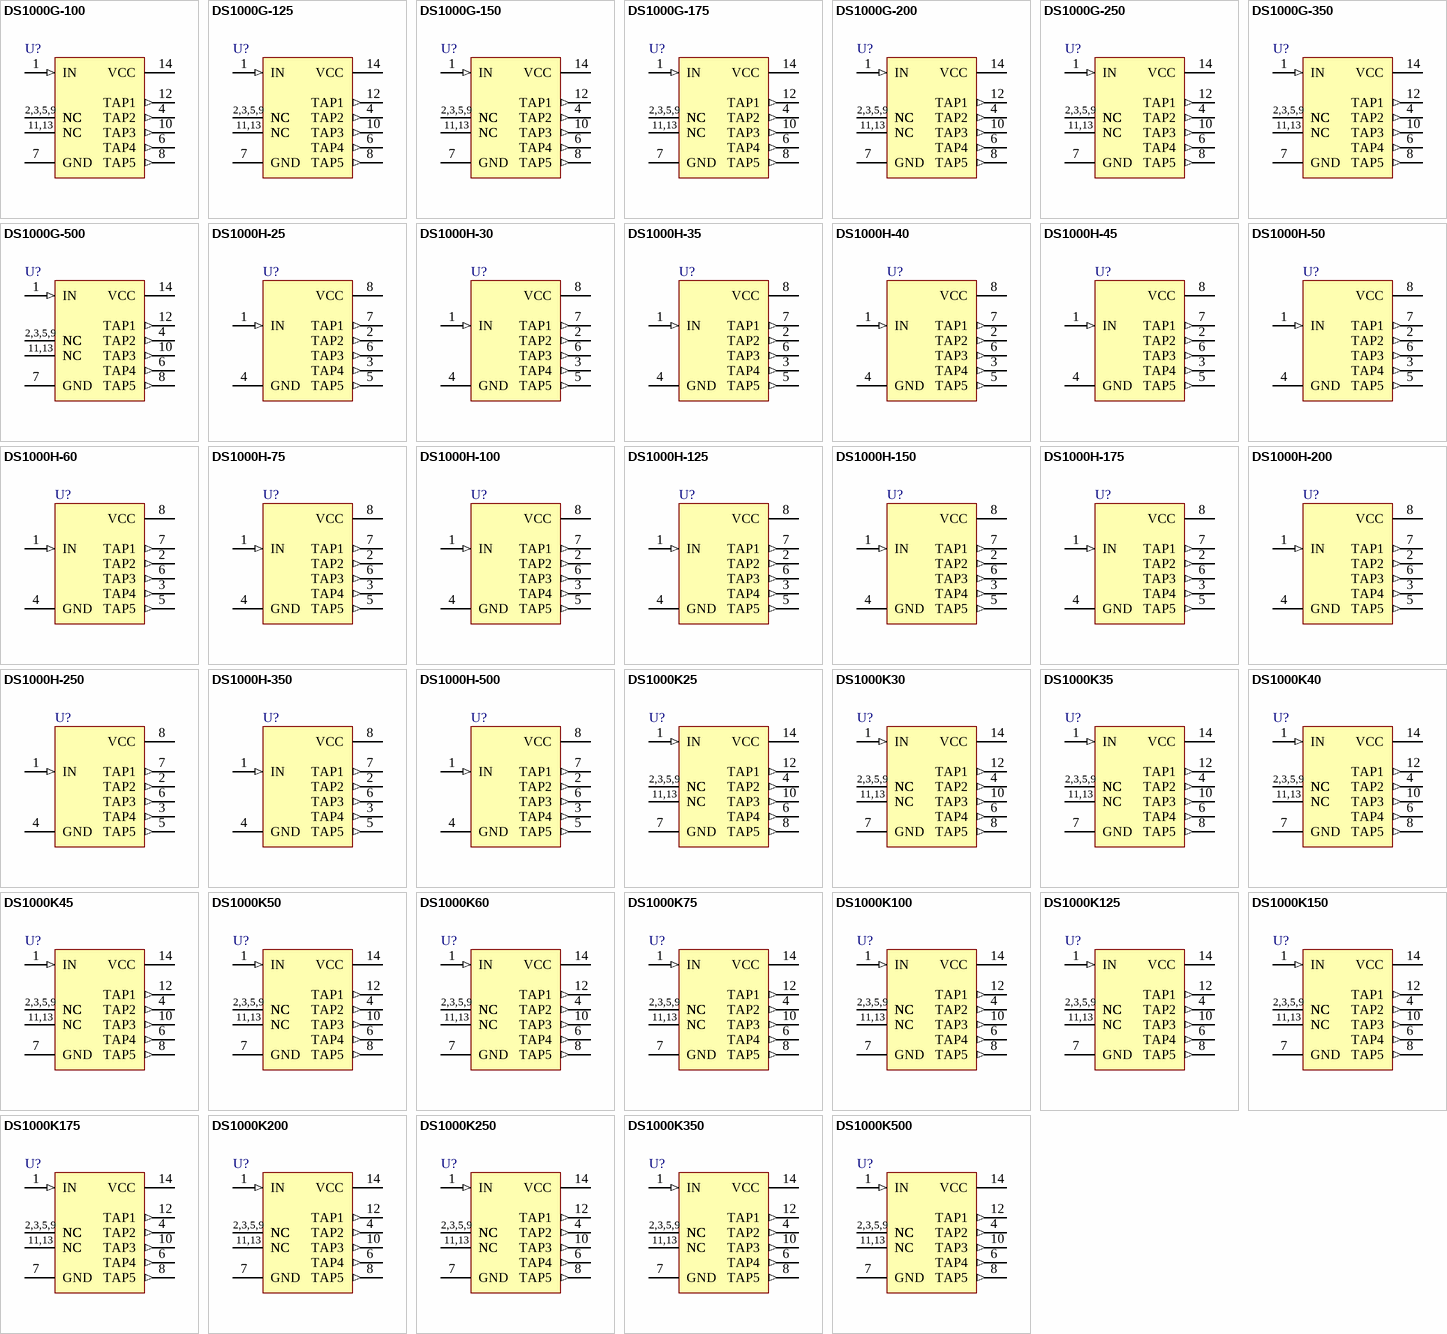
[diagram p1: symbols DS1000G-100 to DS1000K500]

## DS1000G-100
designator U?
5-Tap Silicon Delay Line; Note: Pin numbers 2, 3, 5, 9, 11 and 13 are Not Connected (NC); ComponentAvailability: Obsolete; Published: 13-Oct-2000; LatestRevisionDate: 13-Apr-2006; LatestRevisionNote: IPC-7351 Footprint Added.; DatasheetVersion: Mar-1994; PackageVersion: Feb-1999; PackageReference: SOG14; Publisher: Altium Limited; PackageDescription: 14-Pin Small Outline Package 2.54 mm Pitch; ComponentLink1Description: Manufacturer Link; ComponentLink1URL: http://www.maxim-ic.com/
footprint SOG14_N (SOP, 14-Leads, Body 19.3x6.4mm, Pitch 2.54mm, IPC Medium Density)
footprint SOG14_L (SOP, 14-Leads, Body 19.3x6.4mm, Pitch 2.54mm, IPC High Density)
footprint SOG14_M (SOP, 14-Leads, Body 19.3x6.4mm, Pitch 2.54mm, IPC Low Density)
pins: 1 IN (in), 2 NC, 3 NC, 4 TAP2 (out), 5 NC, 6 TAP4 (out), 7 GND (power), 8 TAP5 (out), 9 NC, 10 TAP3 (out), 11 NC, 12 TAP1 (out), 13 NC, 14 VCC (power)
text: 2,3,5,9; 11,13

## DS1000G-125
designator U?
5-Tap Silicon Delay Line; Note: Pin numbers 2, 3, 5, 9, 11 and 13 are Not Connected (NC); ComponentAvailability: Obsolete; Published: 13-Oct-2000; LatestRevisionDate: 13-Apr-2006; LatestRevisionNote: IPC-7351 Footprint Added.; DatasheetVersion: Mar-1994; PackageVersion: Feb-1999; PackageReference: SOG14; Publisher: Altium Limited; PackageDescription: 14-Pin Small Outline Package 2.54 mm Pitch; ComponentLink1Description: Manufacturer Link; ComponentLink1URL: http://www.maxim-ic.com/
footprint SOG14_N (SOP, 14-Leads, Body 19.3x6.4mm, Pitch 2.54mm, IPC Medium Density)
footprint SOG14_L (SOP, 14-Leads, Body 19.3x6.4mm, Pitch 2.54mm, IPC High Density)
footprint SOG14_M (SOP, 14-Leads, Body 19.3x6.4mm, Pitch 2.54mm, IPC Low Density)
pins: 1 IN (in), 2 NC, 3 NC, 4 TAP2 (out), 5 NC, 6 TAP4 (out), 7 GND (power), 8 TAP5 (out), 9 NC, 10 TAP3 (out), 11 NC, 12 TAP1 (out), 13 NC, 14 VCC (power)
text: 2,3,5,9; 11,13

## DS1000G-150
designator U?
5-Tap Silicon Delay Line; Note: Pin numbers 2, 3, 5, 9, 11 and 13 are Not Connected (NC); ComponentAvailability: Obsolete; Published: 13-Oct-2000; LatestRevisionDate: 13-Apr-2006; LatestRevisionNote: IPC-7351 Footprint Added.; DatasheetVersion: Mar-1994; PackageVersion: Feb-1999; PackageReference: SOG14; Publisher: Altium Limited; PackageDescription: 14-Pin Small Outline Package 2.54 mm Pitch; ComponentLink1Description: Manufacturer Link; ComponentLink1URL: http://www.maxim-ic.com/
footprint SOG14_N (SOP, 14-Leads, Body 19.3x6.4mm, Pitch 2.54mm, IPC Medium Density)
footprint SOG14_L (SOP, 14-Leads, Body 19.3x6.4mm, Pitch 2.54mm, IPC High Density)
footprint SOG14_M (SOP, 14-Leads, Body 19.3x6.4mm, Pitch 2.54mm, IPC Low Density)
pins: 1 IN (in), 2 NC, 3 NC, 4 TAP2 (out), 5 NC, 6 TAP4 (out), 7 GND (power), 8 TAP5 (out), 9 NC, 10 TAP3 (out), 11 NC, 12 TAP1 (out), 13 NC, 14 VCC (power)
text: 2,3,5,9; 11,13

## DS1000G-175
designator U?
5-Tap Silicon Delay Line; Note: Pin numbers 2, 3, 5, 9, 11 and 13 are Not Connected (NC); ComponentAvailability: Obsolete; Published: 13-Oct-2000; LatestRevisionDate: 13-Apr-2006; LatestRevisionNote: IPC-7351 Footprint Added.; DatasheetVersion: Mar-1994; PackageVersion: Feb-1999; PackageReference: SOG14; Publisher: Altium Limited; PackageDescription: 14-Pin Small Outline Package 2.54 mm Pitch; ComponentLink1Description: Manufacturer Link; ComponentLink1URL: http://www.maxim-ic.com/
footprint SOG14_N (SOP, 14-Leads, Body 19.3x6.4mm, Pitch 2.54mm, IPC Medium Density)
footprint SOG14_L (SOP, 14-Leads, Body 19.3x6.4mm, Pitch 2.54mm, IPC High Density)
footprint SOG14_M (SOP, 14-Leads, Body 19.3x6.4mm, Pitch 2.54mm, IPC Low Density)
pins: 1 IN (in), 2 NC, 3 NC, 4 TAP2 (out), 5 NC, 6 TAP4 (out), 7 GND (power), 8 TAP5 (out), 9 NC, 10 TAP3 (out), 11 NC, 12 TAP1 (out), 13 NC, 14 VCC (power)
text: 2,3,5,9; 11,13

## DS1000G-200
designator U?
5-Tap Silicon Delay Line; Note: Pin numbers 2, 3, 5, 9, 11 and 13 are Not Connected (NC); ComponentAvailability: Obsolete; Published: 13-Oct-2000; LatestRevisionDate: 13-Apr-2006; LatestRevisionNote: IPC-7351 Footprint Added.; DatasheetVersion: Mar-1994; PackageVersion: Feb-1999; PackageReference: SOG14; Publisher: Altium Limited; PackageDescription: 14-Pin Small Outline Package 2.54 mm Pitch; ComponentLink1Description: Manufacturer Link; ComponentLink1URL: http://www.maxim-ic.com/
footprint SOG14_N (SOP, 14-Leads, Body 19.3x6.4mm, Pitch 2.54mm, IPC Medium Density)
footprint SOG14_L (SOP, 14-Leads, Body 19.3x6.4mm, Pitch 2.54mm, IPC High Density)
footprint SOG14_M (SOP, 14-Leads, Body 19.3x6.4mm, Pitch 2.54mm, IPC Low Density)
pins: 1 IN (in), 2 NC, 3 NC, 4 TAP2 (out), 5 NC, 6 TAP4 (out), 7 GND (power), 8 TAP5 (out), 9 NC, 10 TAP3 (out), 11 NC, 12 TAP1 (out), 13 NC, 14 VCC (power)
text: 2,3,5,9; 11,13

## DS1000G-250
designator U?
5-Tap Silicon Delay Line; Note: Pin numbers 2, 3, 5, 9, 11 and 13 are Not Connected (NC); ComponentAvailability: Obsolete; Published: 13-Oct-2000; LatestRevisionDate: 13-Apr-2006; LatestRevisionNote: IPC-7351 Footprint Added.; DatasheetVersion: Mar-1994; PackageVersion: Feb-1999; PackageReference: SOG14; Publisher: Altium Limited; PackageDescription: 14-Pin Small Outline Package 2.54 mm Pitch; ComponentLink1Description: Manufacturer Link; ComponentLink1URL: http://www.maxim-ic.com/
footprint SOG14_N (SOP, 14-Leads, Body 19.3x6.4mm, Pitch 2.54mm, IPC Medium Density)
footprint SOG14_L (SOP, 14-Leads, Body 19.3x6.4mm, Pitch 2.54mm, IPC High Density)
footprint SOG14_M (SOP, 14-Leads, Body 19.3x6.4mm, Pitch 2.54mm, IPC Low Density)
pins: 1 IN (in), 2 NC, 3 NC, 4 TAP2 (out), 5 NC, 6 TAP4 (out), 7 GND (power), 8 TAP5 (out), 9 NC, 10 TAP3 (out), 11 NC, 12 TAP1 (out), 13 NC, 14 VCC (power)
text: 2,3,5,9; 11,13

## DS1000G-350
designator U?
5-Tap Silicon Delay Line; Note: Pin numbers 2, 3, 5, 9, 11 and 13 are Not Connected (NC); ComponentAvailability: Obsolete; Published: 13-Oct-2000; LatestRevisionDate: 13-Apr-2006; LatestRevisionNote: IPC-7351 Footprint Added.; DatasheetVersion: Mar-1994; PackageVersion: Feb-1999; PackageReference: SOG14; Publisher: Altium Limited; PackageDescription: 14-Pin Small Outline Package 2.54 mm Pitch; ComponentLink1Description: Manufacturer Link; ComponentLink1URL: http://www.maxim-ic.com/
footprint SOG14_N (SOP, 14-Leads, Body 19.3x6.4mm, Pitch 2.54mm, IPC Medium Density)
footprint SOG14_L (SOP, 14-Leads, Body 19.3x6.4mm, Pitch 2.54mm, IPC High Density)
footprint SOG14_M (SOP, 14-Leads, Body 19.3x6.4mm, Pitch 2.54mm, IPC Low Density)
pins: 1 IN (in), 2 NC, 3 NC, 4 TAP2 (out), 5 NC, 6 TAP4 (out), 7 GND (power), 8 TAP5 (out), 9 NC, 10 TAP3 (out), 11 NC, 12 TAP1 (out), 13 NC, 14 VCC (power)
text: 2,3,5,9; 11,13

## DS1000G-500
designator U?
5-Tap Silicon Delay Line; Note: Pin numbers 2, 3, 5, 9, 11 and 13 are Not Connected (NC); ComponentAvailability: Obsolete; Published: 13-Oct-2000; LatestRevisionDate: 13-Apr-2006; LatestRevisionNote: IPC-7351 Footprint Added.; DatasheetVersion: Mar-1994; PackageVersion: Feb-1999; PackageReference: SOG14; Publisher: Altium Limited; PackageDescription: 14-Pin Small Outline Package 2.54 mm Pitch; ComponentLink1Description: Manufacturer Link; ComponentLink1URL: http://www.maxim-ic.com/
footprint SOG14_N (SOP, 14-Leads, Body 19.3x6.4mm, Pitch 2.54mm, IPC Medium Density)
footprint SOG14_L (SOP, 14-Leads, Body 19.3x6.4mm, Pitch 2.54mm, IPC High Density)
footprint SOG14_M (SOP, 14-Leads, Body 19.3x6.4mm, Pitch 2.54mm, IPC Low Density)
pins: 1 IN (in), 2 NC, 3 NC, 4 TAP2 (out), 5 NC, 6 TAP4 (out), 7 GND (power), 8 TAP5 (out), 9 NC, 10 TAP3 (out), 11 NC, 12 TAP1 (out), 13 NC, 14 VCC (power)
text: 2,3,5,9; 11,13

## DS1000H-25
designator U?
5-Tap Silicon Delay Line; ComponentAvailability: Obsolete; Published: 13-Oct-2000; LatestRevisionDate: 13-Apr-2006; LatestRevisionNote: IPC-7351 Footprint Added.; DatasheetVersion: Mar-1994; PackageVersion: Feb-1999; PackageReference: SOG8; Publisher: Altium Limited; PackageDescription: 8-Pin Small Outline Package 2.54 mm Pitch; ComponentLink1Description: Manufacturer Link; ComponentLink1URL: http://www.maxim-ic.com/
footprint SOG8_N (SOP, 8-Leads, Body 9.5x6.4mm, Pitch 2.54mm, IPC Medium Density)
footprint SOG8_L (SOP, 8-Leads, Body 9.5x6.4mm, Pitch 2.54mm, IPC High Density)
footprint SOG8_M (SOP, 8-Leads, Body 9.5x6.4mm, Pitch 2.54mm, IPC Low Density)
pins: 1 IN (in), 2 TAP2 (out), 3 TAP4 (out), 4 GND (power), 5 TAP5 (out), 6 TAP3 (out), 7 TAP1 (out), 8 VCC (power)

## DS1000H-30
designator U?
5-Tap Silicon Delay Line; ComponentAvailability: Obsolete; Published: 13-Oct-2000; LatestRevisionDate: 13-Apr-2006; LatestRevisionNote: IPC-7351 Footprint Added.; DatasheetVersion: Mar-1994; PackageVersion: Feb-1999; PackageReference: SOG8; Publisher: Altium Limited; PackageDescription: 8-Pin Small Outline Package 2.54 mm Pitch; ComponentLink1Description: Manufacturer Link; ComponentLink1URL: http://www.maxim-ic.com/
footprint SOG8_N (SOP, 8-Leads, Body 9.5x6.4mm, Pitch 2.54mm, IPC Medium Density)
footprint SOG8_L (SOP, 8-Leads, Body 9.5x6.4mm, Pitch 2.54mm, IPC High Density)
footprint SOG8_M (SOP, 8-Leads, Body 9.5x6.4mm, Pitch 2.54mm, IPC Low Density)
pins: 1 IN (in), 2 TAP2 (out), 3 TAP4 (out), 4 GND (power), 5 TAP5 (out), 6 TAP3 (out), 7 TAP1 (out), 8 VCC (power)

## DS1000H-35
designator U?
5-Tap Silicon Delay Line; ComponentAvailability: Obsolete; Published: 13-Oct-2000; LatestRevisionDate: 13-Apr-2006; LatestRevisionNote: IPC-7351 Footprint Added.; DatasheetVersion: Mar-1994; PackageVersion: Feb-1999; PackageReference: SOG8; Publisher: Altium Limited; PackageDescription: 8-Pin Small Outline Package 2.54 mm Pitch; ComponentLink1Description: Manufacturer Link; ComponentLink1URL: http://www.maxim-ic.com/
footprint SOG8_N (SOP, 8-Leads, Body 9.5x6.4mm, Pitch 2.54mm, IPC Medium Density)
footprint SOG8_L (SOP, 8-Leads, Body 9.5x6.4mm, Pitch 2.54mm, IPC High Density)
footprint SOG8_M (SOP, 8-Leads, Body 9.5x6.4mm, Pitch 2.54mm, IPC Low Density)
pins: 1 IN (in), 2 TAP2 (out), 3 TAP4 (out), 4 GND (power), 5 TAP5 (out), 6 TAP3 (out), 7 TAP1 (out), 8 VCC (power)

## DS1000H-40
designator U?
5-Tap Silicon Delay Line; ComponentAvailability: Obsolete; Published: 13-Oct-2000; LatestRevisionDate: 13-Apr-2006; LatestRevisionNote: IPC-7351 Footprint Added.; DatasheetVersion: Mar-1994; PackageVersion: Feb-1999; PackageReference: SOG8; Publisher: Altium Limited; PackageDescription: 8-Pin Small Outline Package 2.54 mm Pitch; ComponentLink1Description: Manufacturer Link; ComponentLink1URL: http://www.maxim-ic.com/
footprint SOG8_N (SOP, 8-Leads, Body 9.5x6.4mm, Pitch 2.54mm, IPC Medium Density)
footprint SOG8_L (SOP, 8-Leads, Body 9.5x6.4mm, Pitch 2.54mm, IPC High Density)
footprint SOG8_M (SOP, 8-Leads, Body 9.5x6.4mm, Pitch 2.54mm, IPC Low Density)
pins: 1 IN (in), 2 TAP2 (out), 3 TAP4 (out), 4 GND (power), 5 TAP5 (out), 6 TAP3 (out), 7 TAP1 (out), 8 VCC (power)

## DS1000H-45
designator U?
5-Tap Silicon Delay Line; ComponentAvailability: Obsolete; Published: 13-Oct-2000; LatestRevisionDate: 13-Apr-2006; LatestRevisionNote: IPC-7351 Footprint Added.; DatasheetVersion: Mar-1994; PackageVersion: Feb-1999; PackageReference: SOG8; Publisher: Altium Limited; PackageDescription: 8-Pin Small Outline Package 2.54 mm Pitch; ComponentLink1Description: Manufacturer Link; ComponentLink1URL: http://www.maxim-ic.com/
footprint SOG8_N (SOP, 8-Leads, Body 9.5x6.4mm, Pitch 2.54mm, IPC Medium Density)
footprint SOG8_L (SOP, 8-Leads, Body 9.5x6.4mm, Pitch 2.54mm, IPC High Density)
footprint SOG8_M (SOP, 8-Leads, Body 9.5x6.4mm, Pitch 2.54mm, IPC Low Density)
pins: 1 IN (in), 2 TAP2 (out), 3 TAP4 (out), 4 GND (power), 5 TAP5 (out), 6 TAP3 (out), 7 TAP1 (out), 8 VCC (power)

## DS1000H-50
designator U?
5-Tap Silicon Delay Line; ComponentAvailability: Obsolete; Published: 13-Oct-2000; LatestRevisionDate: 13-Apr-2006; LatestRevisionNote: IPC-7351 Footprint Added.; DatasheetVersion: Mar-1994; PackageVersion: Feb-1999; PackageReference: SOG8; Publisher: Altium Limited; PackageDescription: 8-Pin Small Outline Package 2.54 mm Pitch; ComponentLink1Description: Manufacturer Link; ComponentLink1URL: http://www.maxim-ic.com/
footprint SOG8_N (SOP, 8-Leads, Body 9.5x6.4mm, Pitch 2.54mm, IPC Medium Density)
footprint SOG8_L (SOP, 8-Leads, Body 9.5x6.4mm, Pitch 2.54mm, IPC High Density)
footprint SOG8_M (SOP, 8-Leads, Body 9.5x6.4mm, Pitch 2.54mm, IPC Low Density)
pins: 1 IN (in), 2 TAP2 (out), 3 TAP4 (out), 4 GND (power), 5 TAP5 (out), 6 TAP3 (out), 7 TAP1 (out), 8 VCC (power)

## DS1000H-60
designator U?
5-Tap Silicon Delay Line; ComponentAvailability: Obsolete; Published: 13-Oct-2000; LatestRevisionDate: 13-Apr-2006; LatestRevisionNote: IPC-7351 Footprint Added.; DatasheetVersion: Mar-1994; PackageVersion: Feb-1999; PackageReference: SOG8; Publisher: Altium Limited; PackageDescription: 8-Pin Small Outline Package 2.54 mm Pitch; ComponentLink1Description: Manufacturer Link; ComponentLink1URL: http://www.maxim-ic.com/
footprint SOG8_N (SOP, 8-Leads, Body 9.5x6.4mm, Pitch 2.54mm, IPC Medium Density)
footprint SOG8_L (SOP, 8-Leads, Body 9.5x6.4mm, Pitch 2.54mm, IPC High Density)
footprint SOG8_M (SOP, 8-Leads, Body 9.5x6.4mm, Pitch 2.54mm, IPC Low Density)
pins: 1 IN (in), 2 TAP2 (out), 3 TAP4 (out), 4 GND (power), 5 TAP5 (out), 6 TAP3 (out), 7 TAP1 (out), 8 VCC (power)

## DS1000H-75
designator U?
5-Tap Silicon Delay Line; ComponentAvailability: Obsolete; Published: 13-Oct-2000; LatestRevisionDate: 13-Apr-2006; LatestRevisionNote: IPC-7351 Footprint Added.; DatasheetVersion: Mar-1994; PackageVersion: Feb-1999; PackageReference: SOG8; Publisher: Altium Limited; PackageDescription: 8-Pin Small Outline Package 2.54 mm Pitch; ComponentLink1Description: Manufacturer Link; ComponentLink1URL: http://www.maxim-ic.com/
footprint SOG8_N (SOP, 8-Leads, Body 9.5x6.4mm, Pitch 2.54mm, IPC Medium Density)
footprint SOG8_L (SOP, 8-Leads, Body 9.5x6.4mm, Pitch 2.54mm, IPC High Density)
footprint SOG8_M (SOP, 8-Leads, Body 9.5x6.4mm, Pitch 2.54mm, IPC Low Density)
pins: 1 IN (in), 2 TAP2 (out), 3 TAP4 (out), 4 GND (power), 5 TAP5 (out), 6 TAP3 (out), 7 TAP1 (out), 8 VCC (power)

## DS1000H-100
designator U?
5-Tap Silicon Delay Line; ComponentAvailability: Obsolete; Published: 13-Oct-2000; LatestRevisionDate: 13-Apr-2006; LatestRevisionNote: IPC-7351 Footprint Added.; DatasheetVersion: Mar-1994; PackageVersion: Feb-1999; PackageReference: SOG8; Publisher: Altium Limited; PackageDescription: 8-Pin Small Outline Package 2.54 mm Pitch; ComponentLink1Description: Manufacturer Link; ComponentLink1URL: http://www.maxim-ic.com/
footprint SOG8_N (SOP, 8-Leads, Body 9.5x6.4mm, Pitch 2.54mm, IPC Medium Density)
footprint SOG8_L (SOP, 8-Leads, Body 9.5x6.4mm, Pitch 2.54mm, IPC High Density)
footprint SOG8_M (SOP, 8-Leads, Body 9.5x6.4mm, Pitch 2.54mm, IPC Low Density)
pins: 1 IN (in), 2 TAP2 (out), 3 TAP4 (out), 4 GND (power), 5 TAP5 (out), 6 TAP3 (out), 7 TAP1 (out), 8 VCC (power)

## DS1000H-125
designator U?
5-Tap Silicon Delay Line; ComponentAvailability: Obsolete; Published: 13-Oct-2000; LatestRevisionDate: 13-Apr-2006; LatestRevisionNote: IPC-7351 Footprint Added.; DatasheetVersion: Mar-1994; PackageVersion: Feb-1999; PackageReference: SOG8; Publisher: Altium Limited; PackageDescription: 8-Pin Small Outline Package 2.54 mm Pitch; ComponentLink1Description: Manufacturer Link; ComponentLink1URL: http://www.maxim-ic.com/
footprint SOG8_N (SOP, 8-Leads, Body 9.5x6.4mm, Pitch 2.54mm, IPC Medium Density)
footprint SOG8_L (SOP, 8-Leads, Body 9.5x6.4mm, Pitch 2.54mm, IPC High Density)
footprint SOG8_M (SOP, 8-Leads, Body 9.5x6.4mm, Pitch 2.54mm, IPC Low Density)
pins: 1 IN (in), 2 TAP2 (out), 3 TAP4 (out), 4 GND (power), 5 TAP5 (out), 6 TAP3 (out), 7 TAP1 (out), 8 VCC (power)

## DS1000H-150
designator U?
5-Tap Silicon Delay Line; ComponentAvailability: Obsolete; Published: 13-Oct-2000; LatestRevisionDate: 13-Apr-2006; LatestRevisionNote: IPC-7351 Footprint Added.; DatasheetVersion: Mar-1994; PackageVersion: Feb-1999; PackageReference: SOG8; Publisher: Altium Limited; PackageDescription: 8-Pin Small Outline Package 2.54 mm Pitch; ComponentLink1Description: Manufacturer Link; ComponentLink1URL: http://www.maxim-ic.com/
footprint SOG8_N (SOP, 8-Leads, Body 9.5x6.4mm, Pitch 2.54mm, IPC Medium Density)
footprint SOG8_L (SOP, 8-Leads, Body 9.5x6.4mm, Pitch 2.54mm, IPC High Density)
footprint SOG8_M (SOP, 8-Leads, Body 9.5x6.4mm, Pitch 2.54mm, IPC Low Density)
pins: 1 IN (in), 2 TAP2 (out), 3 TAP4 (out), 4 GND (power), 5 TAP5 (out), 6 TAP3 (out), 7 TAP1 (out), 8 VCC (power)

## DS1000H-175
designator U?
5-Tap Silicon Delay Line; ComponentAvailability: Obsolete; Published: 13-Oct-2000; LatestRevisionDate: 13-Apr-2006; LatestRevisionNote: IPC-7351 Footprint Added.; DatasheetVersion: Mar-1994; PackageVersion: Feb-1999; PackageReference: SOG8; Publisher: Altium Limited; PackageDescription: 8-Pin Small Outline Package 2.54 mm Pitch; ComponentLink1Description: Manufacturer Link; ComponentLink1URL: http://www.maxim-ic.com/
footprint SOG8_N (SOP, 8-Leads, Body 9.5x6.4mm, Pitch 2.54mm, IPC Medium Density)
footprint SOG8_L (SOP, 8-Leads, Body 9.5x6.4mm, Pitch 2.54mm, IPC High Density)
footprint SOG8_M (SOP, 8-Leads, Body 9.5x6.4mm, Pitch 2.54mm, IPC Low Density)
pins: 1 IN (in), 2 TAP2 (out), 3 TAP4 (out), 4 GND (power), 5 TAP5 (out), 6 TAP3 (out), 7 TAP1 (out), 8 VCC (power)